# Altium footprint library RPSLib_MotorController.PcbLib: 3 footprints
Each footprint in its own frame and in the unit in brackets; x right, y up, seen from the top. Pads: shape width x height; smd on the part's side, far side on the other; paste and mask are expansions set on the pad; w line width, h text height; cw(c..) or ccw(c..) is an arc to the next point about the centre after c.
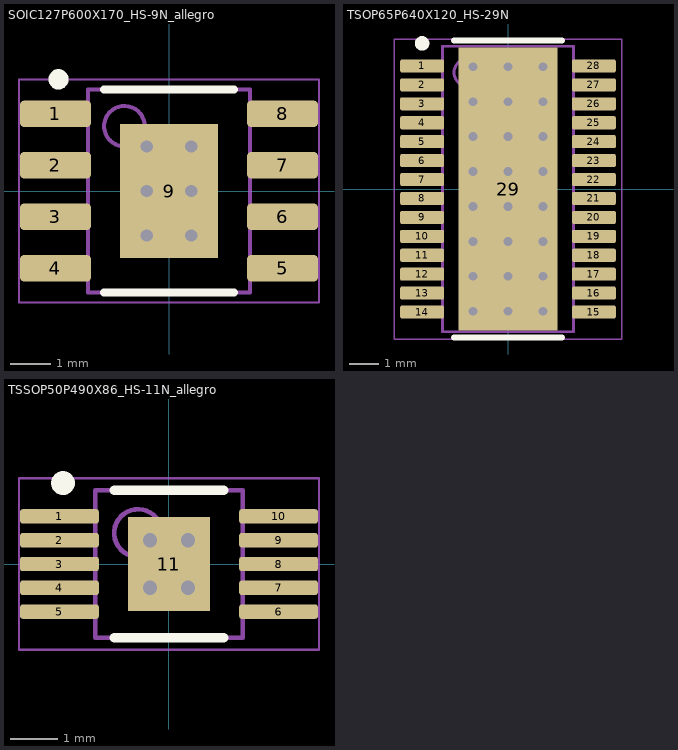
[diagram p0: the footprints below, top view; thin cyan lines are the x and y axes]

## SOIC127P600X170_HS-9N_allegro [mm] "SOIC, 8-Leads, Body 4,90x3,90mm, Pitch 1,27mm, Thermal Pad 3,30x2,41mm, IPC Medium Density"
height 1.7
pads (9):
  rrect30% 1.75x0.65 smd mask+0.07: 1(-2.8,1.905) 2(-2.8,0.635) 3(-2.8,-0.635) 4(-2.8,-1.905) 5(2.8,-1.905) 6(2.8,-0.635) 7(2.8,0.635) 8(2.8,1.905)
  rect 2.41x3.3 smd mask+0.07: 9(0,0)
via -0.55,1.1 diameter 0.7 hole 0.3
via 0.55,1.1 diameter 0.7 hole 0.3
via -0.55,0 diameter 0.7 hole 0.3
via 0.55,0 diameter 0.7 hole 0.3
via -0.55,-1.1 diameter 0.7 hole 0.3
via 0.55,-1.1 diameter 0.7 hole 0.3
Top Overlay:
  circle w0.25: c-2.725,2.755 r0.125
  lines w0.2: -1.6,-2.5 1.6,-2.5 ; -1.6,2.5 1.6,2.5
Mechanical 13:
  circle w0.1: c-1.1,1.6 r0.5
  lines w0.1: -2,-2.5 -2,2.5 2,2.5 2,-2.5 -2,-2.5
Mechanical 15:
  lines w0.05: -3.7,-2.75 -3.7,2.75 3.7,2.75 3.7,-2.75 -3.7,-2.75
  lines w0.1: -0.5,0 0.5,0 ; 0,-0.5 0,0.5
3D body "SOIC127P600X170_HS-9N_allegro.step": height 1.7, standoff 0, extent -3,-2.5 3,2.5

## TSOP65P640X120_HS-29N [mm] "TSOP, 28-Leads, Body 9,70x4,40mm, Pitch 0,65mm, Thermal Pad 5,18x3,10mm, IPC Medium Density"
height 1.2
pads (29):
  rrect25% 1.5x0.45 smd paste+0 mask+0.05: 1(-2.95,4.225) 2(-2.95,3.575) 3(-2.95,2.925) 4(-2.95,2.275) 5(-2.95,1.625) 6(-2.95,0.975) 7(-2.95,0.325) 8(-2.95,-0.325) 9(-2.95,-0.975) 10(-2.95,-1.625) 11(-2.95,-2.275) 12(-2.95,-2.925) 13(-2.95,-3.575) 14(-2.95,-4.225) 15(2.95,-4.225) 16(2.95,-3.575) 17(2.95,-2.925) 18(2.95,-2.275) 19(2.95,-1.625) 20(2.95,-0.975) 21(2.95,-0.325) 22(2.95,0.325) 23(2.95,0.975) 24(2.95,1.625) 25(2.95,2.275) 26(2.95,2.925) 27(2.95,3.575) 28(2.95,4.225)
  rect 3.4x9.7 smd paste-5 mask+0.07: 29(0,0)
via -1.2,0.6 diameter 0.6 hole 0.3
via 0,0.6 diameter 0.6 hole 0.3
via 1.2,0.6 diameter 0.6 hole 0.3
via -1.2,-0.6 diameter 0.6 hole 0.3
via 0,-0.6 diameter 0.6 hole 0.3
via 1.2,-0.6 diameter 0.6 hole 0.3
via -1.2,-1.8 diameter 0.6 hole 0.3
via 0,-1.8 diameter 0.6 hole 0.3
via 1.2,-1.8 diameter 0.6 hole 0.3
via 1.2,-3 diameter 0.6 hole 0.3
via 0,-3 diameter 0.6 hole 0.3
via -1.2,-3 diameter 0.6 hole 0.3
via 1.2,-4.2 diameter 0.6 hole 0.3
via 0,-4.2 diameter 0.6 hole 0.3
via -1.2,-4.2 diameter 0.6 hole 0.3
via -1.2,1.8 diameter 0.6 hole 0.3
via 0,1.8 diameter 0.6 hole 0.3
via 1.2,1.8 diameter 0.6 hole 0.3
via -1.2,3 diameter 0.6 hole 0.3
via 0,3 diameter 0.6 hole 0.3
via 1.2,3 diameter 0.6 hole 0.3
via -1.2,4.2 diameter 0.6 hole 0.3
via 0,4.2 diameter 0.6 hole 0.3
via 1.2,4.2 diameter 0.6 hole 0.3
Top Overlay:
  circle w0.25: c-2.95,5 r0.125
  lines w0.2: -1.85,-5.1 1.85,-5.1 ; -1.85,5.1 1.85,5.1
Top Solder:
  rectangle: -1.55,-2.59 1.55,2.59
Mechanical 13:
  circle w0.1: c-1.35,4 r0.5
  lines w0.1: -2.25,-4.9 -2.25,4.9 2.25,4.9 2.25,-4.9 -2.25,-4.9
Mechanical 15:
  lines w0.05: -3.9,-5.15 -3.9,5.15 3.9,5.15 3.9,-5.15 -3.9,-5.15
  lines w0.1: -0.5,0 0.5,0 ; 0,-0.5 0,0.5
3D body "TSOP65P640X120_HS-29N.step": height 1.2, standoff 0, extent -3.2,-4.9 3.2,4.9

## TSSOP50P490X86_HS-11N_allegro [mm] "TSSOP, 10-Leads, Body 3,00x3,00mm, Pitch 0,50mm, Thermal Pad 1,98x1,73mm, IPC Medium Density"
height 0.86
pads (11):
  rrect30% 1.65x0.3 smd mask+0.07: 1(-2.3,1) 2(-2.3,0.5) 3(-2.3,0) 4(-2.3,-0.5) 5(-2.3,-1) 6(2.3,-1) 7(2.3,-0.5) 8(2.3,0) 9(2.3,0.5) 10(2.3,1)
  rect 1.73x1.98 smd mask+0.07: 11(0,0)
via -0.4,0.5 diameter 0.7 hole 0.3
via 0.4,0.5 diameter 0.7 hole 0.3
via -0.4,-0.5 diameter 0.7 hole 0.3
via 0.4,-0.5 diameter 0.7 hole 0.3
Top Overlay:
  circle w0.25: c-2.225,1.7 r0.125
  lines w0.2: -1.15,-1.55 1.15,-1.55 ; -1.15,1.55 1.15,1.55
Mechanical 13:
  circle w0.1: c-0.65,0.65 r0.5
  lines w0.1: -1.55,-1.55 1.55,-1.55 1.55,1.55 -1.55,1.55 -1.55,-1.55
Mechanical 15:
  lines w0.05: -3.15,-1.8 3.15,-1.8 3.15,1.8 -3.15,1.8 -3.15,-1.8
  lines w0.1: -0.5,0 0.5,0 ; 0,-0.5 0,0.5
3D body "TSSOP50P490X86_HS-11N.step": height 0.86, standoff 0, extent -2.44,-1.55 2.44,1.55